# EAGLE library part MICRO_CONTROLLER (library mini_project_parts)
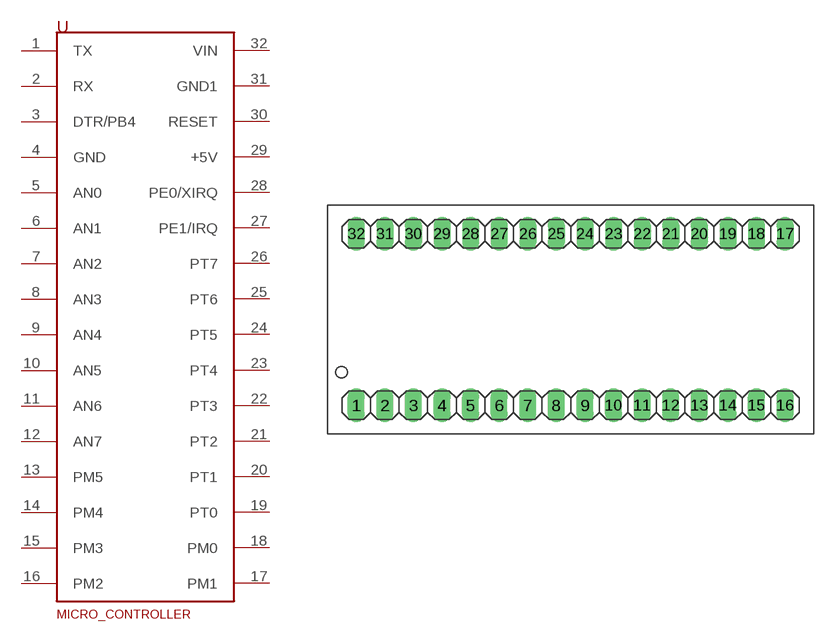
[diagram p1: symbol with the pads of MICRO_CONTROLLER; footprint MICRO_CONTROLLER]

Designator prefix -

## MICRO_CONTROLLER  [MICRO_CONTROLLER]
1  TX
2  RX
3  DTR/PB4
4  GND
5  AN0
6  AN1
7  AN2
8  AN3
9  AN4
10  AN5
11  AN6
12  AN7
13  PM5
14  PM4
15  PM3
16  PM2
17  PM1
18  PM0
19  PT0
20  PT1
21  PT2
22  PT3
23  PT4
24  PT5
25  PT6
26  PT7
27  PE1/IRQ
28  PE0/XIRQ
29  +5V
30  RESET
31  GND1
32  VIN

## Footprint MICRO_CONTROLLER (pad centres in mm)
drill 1.016 long: 1 0,0; 2 2.54,0; 3 5.08,0; 4 7.62,0; 5 10.16,0; 6 12.7,0; 7 15.24,0; 8 17.78,0; 9 20.32,0; 10 22.86,0; 11 25.4,0; 12 27.94,0; 13 30.48,0; 14 33.02,0; 15 35.56,0; 16 38.1,0; 17 38.1,15.24; 18 35.56,15.24; 19 33.02,15.24; 20 30.48,15.24; 21 27.94,15.24; 22 25.4,15.24; 23 22.86,15.24; 24 20.32,15.24; 25 17.78,15.24; 26 15.24,15.24; 27 12.7,15.24; 28 10.16,15.24; 29 7.62,15.24; 30 5.08,15.24; 31 2.54,15.24; 32 0,15.24